# Altium integrated library sensor proximidad VCNL36687S.IntLib: 1 symbol
Pins are listed as number, name and electrical type; pins without a type are passive.

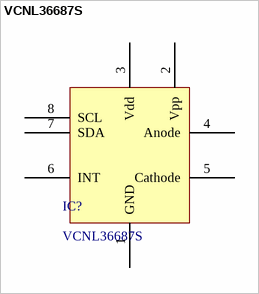
[diagram p0: symbol VCNL36687S]

## VCNL36687S
designator IC?
sensor proximidad VCNL36687S
footprint VCNL36687S
pins: 1 GND, 2 Vpp, 3 Vdd, 4 Anode, 5 Cathode, 6 INT, 7 SDA, 8 SCL